# Altium schematic symbol library SCH - POWER - SWITCHMODE - TI TPS62751_DSK_10.SchLib: 1 symbol
Pins are listed as number, name and electrical type; pins without a type are passive.

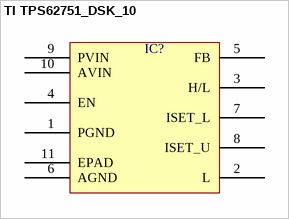
[diagram p0: symbol TI TPS62751_DSK_10]

## TI TPS62751_DSK_10
designator IC?  (value not drawn)
pins: 1 PGND, 2 L, 3 H/L, 4 EN, 5 FB, 6 AGND, 7 ISET_L, 8 ISET_U, 9 PVIN, 10 AVIN, 11 EPAD